# Altium footprint library K 壳体.PcbLib: 3 footprints
Each footprint in its own frame and in the unit in brackets; x right, y up, seen from the top. Pads: shape width x height; smd on the part's side, far side on the other; paste and mask are expansions set on the pad; w line width, h text height; cw(c..) or ccw(c..) is an arc to the next point about the centre after c.
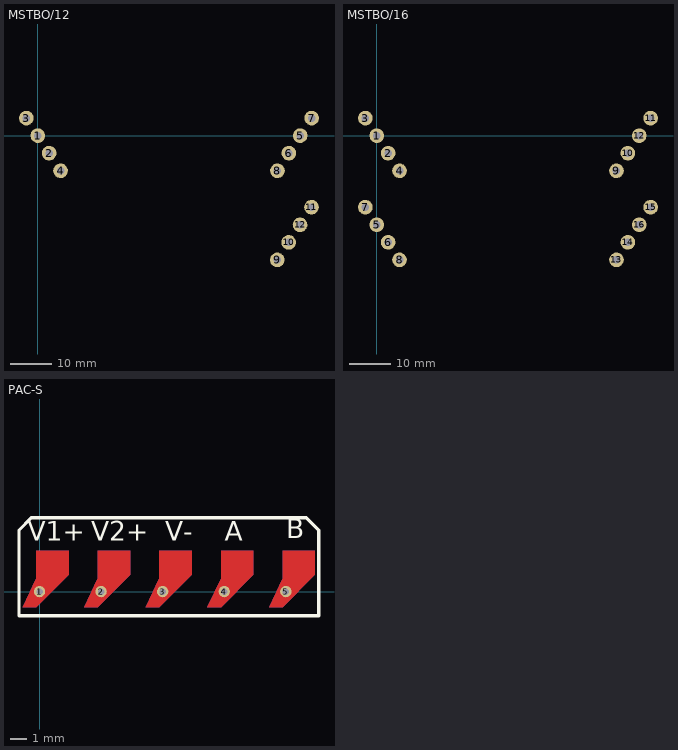
[diagram p0: the footprints below, top view; thin cyan lines are the x and y axes]

## MSTBO/12 [mil]
pads (12):
  round 140 hole 70.87: 1(0,0) 2(108.93,-167.73) 3(-108.93,167.73) 4(217.86,-335.47) 5(2506.56,0) 6(2397.63,-167.73) 7(2615.48,167.73) 8(2288.7,-335.47) 9(2286.85,-1186.41) 10(2395.78,-1018.68) 11(2613.63,-683.21) 12(2504.71,-850.95)

## MSTBO/16 [mil]
pads (16):
  round 140 hole 70.87: 1(0,0) 2(108.93,-167.73) 3(-108.93,167.73) 4(217.86,-335.47) 5(0,-850.39) 6(108.93,-1018.13) 7(-108.93,-682.66) 8(217.86,-1185.86) 9(2288.7,-335.47) 10(2397.63,-167.73) 11(2615.48,167.73) 12(2506.56,0) 13(2288.7,-1185.86) 14(2397.63,-1018.13) 15(2615.48,-682.66) 16(2506.56,-850.39)
Top Layer:
  lines w120: -108.93,167.73 -108.67,167.73
Bottom Solder:
  lines w120: 2.33,-1.71 2.33,3.29

## PAC-S [mm]
pads (5):
  round 0.7 hole 0.4: 1(0,0) 2(3.81,0) 3(7.62,0) 4(11.43,0) 5(15.24,0)
Top Layer:
  region: -0.2,2.54 -0.2,0.84 -1.039,-0.96 -0.2,-0.96 1.8,1.04 1.8,2.54
  region: 3.61,2.54 3.61,0.84 2.771,-0.96 3.61,-0.96 5.61,1.04 5.61,2.54
  region: 7.42,2.54 7.42,0.84 6.581,-0.96 7.42,-0.96 9.42,1.04 9.42,2.54
  region: 11.23,2.54 11.23,0.84 10.391,-0.96 11.23,-0.96 13.23,1.04 13.23,2.54
  region: 15.04,2.54 15.04,0.84 14.201,-0.96 15.04,-0.96 17.04,1.04 17.04,2.54
Bottom Layer:
  region: 15.04,2.54 15.04,0.84 14.201,-0.96 15.04,-0.96 17.04,1.04 17.04,2.54
  region: 11.23,2.54 11.23,0.84 10.391,-0.96 11.23,-0.96 13.23,1.04 13.23,2.54
  region: 7.42,2.54 7.42,0.84 6.581,-0.96 7.42,-0.96 9.42,1.04 9.42,2.54
  region: 3.61,2.54 3.61,0.84 2.771,-0.96 3.61,-0.96 5.61,1.04 5.61,2.54
  region: -0.2,2.54 -0.2,0.84 -1.039,-0.96 -0.2,-0.96 1.8,1.04 1.8,2.54
Top Overlay:
  lines w0.203: -1.27,-1.5 -1.27,3.81 ; -1.27,-1.5 -1.27,3.81 ; -1.27,-1.5 17.272,-1.5 ; -1.27,-1.5 17.272,-1.5 ; -1.27,3.81 -0.508,4.572 16.51,4.572 17.272,3.81 ; 17.272,-1.5 17.272,3.81 ; 17.272,-1.5 17.272,3.81
  text "V1+" at -0.742,2.758 h2.03
  text "V2+" at 3.195,2.758 h2.03
  text "V-" at 7.767,2.758 h2.03
  text "A" at 11.45,2.758 h2.03
  text "B" at 15.26,2.885 h2.03
Bottom Overlay:
  lines w0.203: -1.27,-1.5 -1.27,3.81 ; -1.27,-1.5 -1.27,3.81 ; -1.27,-1.5 17.272,-1.5 ; -1.27,-1.5 17.272,-1.5 ; -1.27,3.81 -0.508,4.572 16.51,4.572 17.272,3.81 ; 17.272,-1.5 17.272,3.81 ; 17.272,-1.5 17.272,3.81
  text "1" at 0.816,2.794 h1.02
  text "2" at 4.88,2.794 h1.02
  text "3" at 8.69,2.794 h1.02
  text "4" at 12.5,2.794 h1.02
  text "5" at 16.31,2.794 h1.02
Top Solder:
  region: -0.2,2.54 -0.2,0.84 -1.039,-0.96 -0.2,-0.96 1.8,1.04 1.8,2.54
  region: 3.61,2.54 3.61,0.84 2.771,-0.96 3.61,-0.96 5.61,1.04 5.61,2.54
  region: 7.42,2.54 7.42,0.84 6.581,-0.96 7.42,-0.96 9.42,1.04 9.42,2.54
  region: 11.23,2.54 11.23,0.84 10.391,-0.96 11.23,-0.96 13.23,1.04 13.23,2.54
  region: 15.04,2.54 15.04,0.84 14.201,-0.96 15.04,-0.96 17.04,1.04 17.04,2.54
  lines w0.127: 9.42,1.04 9.42,2.54 ; 9.42,1.04 9.42,2.54 ; 9.42,1.04 7.42,-0.96 6.581,-0.96 7.42,0.84 7.42,2.54 9.42,2.54 ; -1.039,-0.96 -0.2,0.84 -0.2,2.54 1.8,2.54 1.8,1.04 -0.2,-0.96 -1.039,-0.96 ; 2.771,-0.96 3.61,0.84 3.61,2.54 5.61,2.54 5.61,1.04 3.61,-0.96 2.771,-0.96 ; 10.391,-0.96 11.23,0.84 11.23,2.54 13.23,2.54 13.23,1.04 11.23,-0.96 10.391,-0.96 ; 14.201,-0.96 15.04,0.84 15.04,2.54 17.04,2.54 17.04,1.04 15.04,-0.96 14.201,-0.96
Bottom Solder:
  region: -0.2,2.54 -0.2,0.84 -1.039,-0.96 -0.2,-0.96 1.8,1.04 1.8,2.54
  region: 3.61,2.54 3.61,0.84 2.771,-0.96 3.61,-0.96 5.61,1.04 5.61,2.54
  region: 7.42,2.54 7.42,0.84 6.581,-0.96 7.42,-0.96 9.42,1.04 9.42,2.54
  region: 11.23,2.54 11.23,0.84 10.391,-0.96 11.23,-0.96 13.23,1.04 13.23,2.54
  region: 15.04,2.54 15.04,0.84 14.201,-0.96 15.04,-0.96 17.04,1.04 17.04,2.54
  lines w0.127: -1.039,-0.96 -0.2,0.84 -0.2,2.54 1.8,2.54 1.8,1.04 -0.2,-0.96 -1.039,-0.96 ; 2.771,-0.96 3.61,0.84 3.61,2.54 5.61,2.54 5.61,1.04 3.61,-0.96 2.771,-0.96 ; 6.581,-0.96 7.42,0.84 7.42,2.54 9.42,2.54 9.42,1.04 7.42,-0.96 6.581,-0.96 ; 10.391,-0.96 11.23,0.84 11.23,2.54 13.23,2.54 13.23,1.04 11.23,-0.96 10.391,-0.96 ; 14.201,-0.96 15.04,0.84 15.04,2.54 17.04,2.54 17.04,1.04 15.04,-0.96 14.201,-0.96